# Altium schematic symbol library Phonejack_Stereo_SW.SchLib: 1 symbol
Pins are listed as number, name and electrical type; pins without a type are passive.

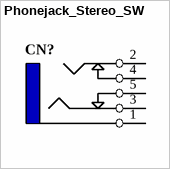
[diagram p0: symbol Phonejack_Stereo_SW]

## Phonejack_Stereo_SW
designator CN?
footprint STX-2550-5N-TR
pins: 1, 2, 3, 4, 5